# EAGLE library part ATMEGA644-MU (library Atmel)
8-bit AVR Microcontroller with 16/32/64K Bytes In-System Programmable Flash
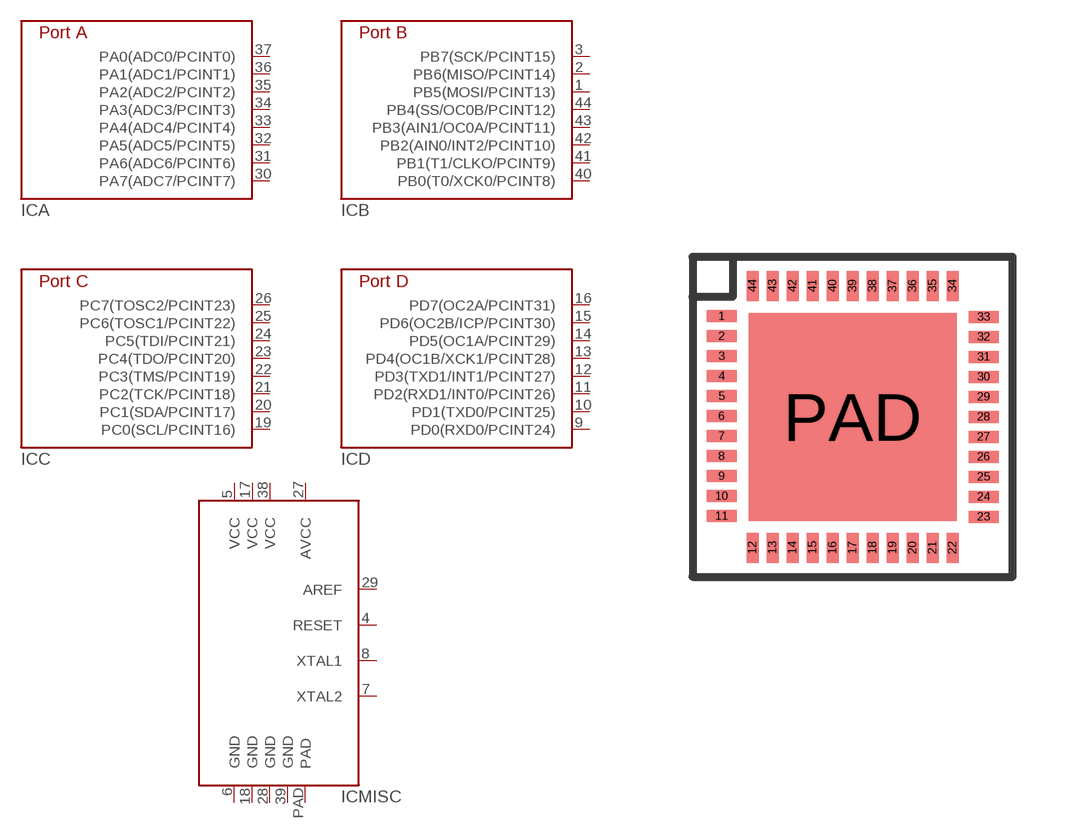
[diagram p14: symbol with the pads of QFN44-44M1; footprint QFN44-44M1]

Designator prefix IC; gates A=ATMEGA644-A B=ATMEGA644-B C=ATMEGA644-C D=ATMEGA644-D MISC=ATMEGA644-MISC-PAD

## ATMEGA644-MU  [QFN44-44M1]
1  B:PB5(MOSI/PCINT13)
2  B:PB6(MISO/PCINT14)
3  B:PB7(SCK/PCINT15)
4  MISC:RESET
5  MISC:VCC
6  MISC:GND
7  MISC:XTAL2
8  MISC:XTAL1
9  D:PD0(RXD0/PCINT24)
10  D:PD1(TXD0/PCINT25)
11  D:PD2(RXD1/INT0/PCINT26)
12  D:PD3(TXD1/INT1/PCINT27)
13  D:PD4(OC1B/XCK1/PCINT28)
14  D:PD5(OC1A/PCINT29)
15  D:PD6(OC2B/ICP/PCINT30)
16  D:PD7(OC2A/PCINT31)
17  MISC:VCC
18  MISC:GND
19  C:PC0(SCL/PCINT16)
20  C:PC1(SDA/PCINT17)
21  C:PC2(TCK/PCINT18)
22  C:PC3(TMS/PCINT19)
23  C:PC4(TDO/PCINT20)
24  C:PC5(TDI/PCINT21)
25  C:PC6(TOSC1/PCINT22)
26  C:PC7(TOSC2/PCINT23)
27  MISC:AVCC
28  MISC:GND
29  MISC:AREF
30  A:PA7(ADC7/PCINT7)
31  A:PA6(ADC6/PCINT6)
32  A:PA5(ADC5/PCINT5)
33  A:PA4(ADC4/PCINT4)
34  A:PA3(ADC3/PCINT3)
35  A:PA2(ADC2/PCINT2)
36  A:PA1(ADC1/PCINT1)
37  A:PA0(ADC0/PCINT0)
38  MISC:VCC
39  MISC:GND
40  B:PB0(T0/XCK0/PCINT8)
41  B:PB1(T1/CLKO/PCINT9)
42  B:PB2(AIN0/INT2/PCINT10)
43  B:PB3(AIN1/OC0A/PCINT11)
44  B:PB4(SS/OC0B/PCINT12)
PAD  MISC:PAD

## Footprint QFN44-44M1 (pad centres in mm)
44M1 - 44-pad, 7x7x1.0mm Body, Lead Pitch 0.5mm, 5.20mm Exposed Pad, Quad Flad No-Lead (QFN)
smd 0.75 x 0.3: 1 -3.275,2.515; 2 -3.275,2.015; 3 -3.275,1.515; 4 -3.275,1.015; 5 -3.275,0.515; 6 -3.275,0.015; 7 -3.275,-0.485; 8 -3.275,-0.985; 9 -3.275,-1.485; 10 -3.275,-1.985; 11 -3.275,-2.485; 23 3.275,-2.5; 24 3.275,-2; 25 3.275,-1.5; 26 3.275,-1; 27 3.275,-0.5; 28 3.275,0; 29 3.275,0.5; 30 3.275,1; 31 3.275,1.5; 32 3.275,2; 33 3.275,2.5
smd 0.3 x 0.75: 12 -2.5,-3.275; 13 -2,-3.275; 14 -1.5,-3.275; 15 -1,-3.275; 16 -0.5,-3.275; 17 0,-3.275; 18 0.5,-3.275; 19 1,-3.275; 20 1.5,-3.275; 21 2,-3.275; 22 2.5,-3.275; 34 2.5,3.275; 35 2,3.275; 36 1.5,3.275; 37 1,3.275; 38 0.5,3.275; 39 0,3.275; 40 -0.5,3.275; 41 -1,3.275; 42 -1.5,3.275; 43 -2,3.275; 44 -2.5,3.275
smd 5.2 x 5.2: PAD 0,0